# Altium schematic symbol library Schlib1.SchLib: 2 symbols
Pins are listed as number, name and electrical type; pins without a type are passive.

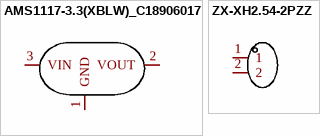
[diagram p0: symbols AMS1117-3.3(XBLW)_C18906017 to ZX-XH2.54-2PZZ]

## AMS1117-3.3(XBLW)_C18906017
designator U??, comment AMS1117-3.3(XBLW)  (value not drawn)
Manufacturer: XBLW(芯伯乐); Symbol: AMS1117-3.3(XBLW)_C18906017; Add into BOM: yes; Maximum Input Voltage: 15V; Output Voltage: 3.3V; MAX Output Current: 1A; Power Supply Rejection Ratio (PSRR): 60dB; standby current: 4mA; Number of Outputs: 1; Name: AMS1117-3.3(XBLW); Device: AMS1117-3.3(XBLW)_C18906017; LCSC Part Name: AMS1117-3.3(XBLW); Supplier Part: C18906017; Manufacturer Part: AMS1117-3.3(XBLW); Supplier Footprint: SOT-223; JLCPCB Part Class: Extended Part; Datasheet: https://atta.szlcsc.com/upload/public/pdf/source/20231019/F4230EEFC48908FC91962BB59ACA9AD6.pdf; Supplier: LCSC; Convert to PCB: yes; Operating Temperature: -40℃~+125℃
footprint SOT-223-3_L6.5-W3.4-P2.30-LS7.0-BR-1
3D model SOT-223-3_L6.5-W3.4-P2.30-LS7.0-BR-1
pins: 1 GND, 2 VOUT, 3 VIN

## ZX-XH2.54-2PZZ
designator CN??  (value not drawn)
Manufacturer: Megastar(兆星); Add into BOM: yes; Pins Structure: 1x2P; Pitch: 2.54mm; Reference Series: XH; Number of PINs Per Row: 2; Current Rating (Max): 3A; Name: ZX-XH2.54-2PZZ; Symbol: ZX-XH2.54-2PZZ; Device: ZX-XH2.54-2PZZ; LCSC Part Name: ZX-XH2.54-2PZZ; Supplier Part: C7429632; Manufacturer Part: ZX-XH2.54-2PZZ; Supplier Footprint: 插件,P=2.54mm; JLCPCB Part Class: Extended Part; Datasheet: https://atta.szlcsc.com/upload/public/pdf/source/20230619/19BA6947230AA44A04D3EDD65E618FD0.pdf; Supplier: LCSC; Convert to PCB: yes; Mounting Style: 直插; Number of Pins: 2P; Number of Rows: 1; Row Spacing: -; Contact Material: 黄铜; Contact Plating: 锡; Operating Temperature Range: -25℃~+85℃
footprint CONN-TH_2P-P2.50_HX25003-2A
3D model CONN-TH_2P-P2.50_HX25003-2A
pins: 1, 2